# Altium schematic symbol library lcd16x02_3V3.SchLib: 1 symbol
Pins are listed as number, name and electrical type; pins without a type are passive.

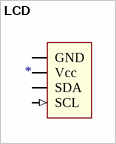
[diagram p0: symbol LCD]

## LCD
designator DS?
pins: 4 GND (power), 5 Vcc (power), 6 SDA (io), 7 SCL (in)